# Altium integrated library ON Semi Zener Diodes.IntLib: 1366 symbols (part 11 of 29)
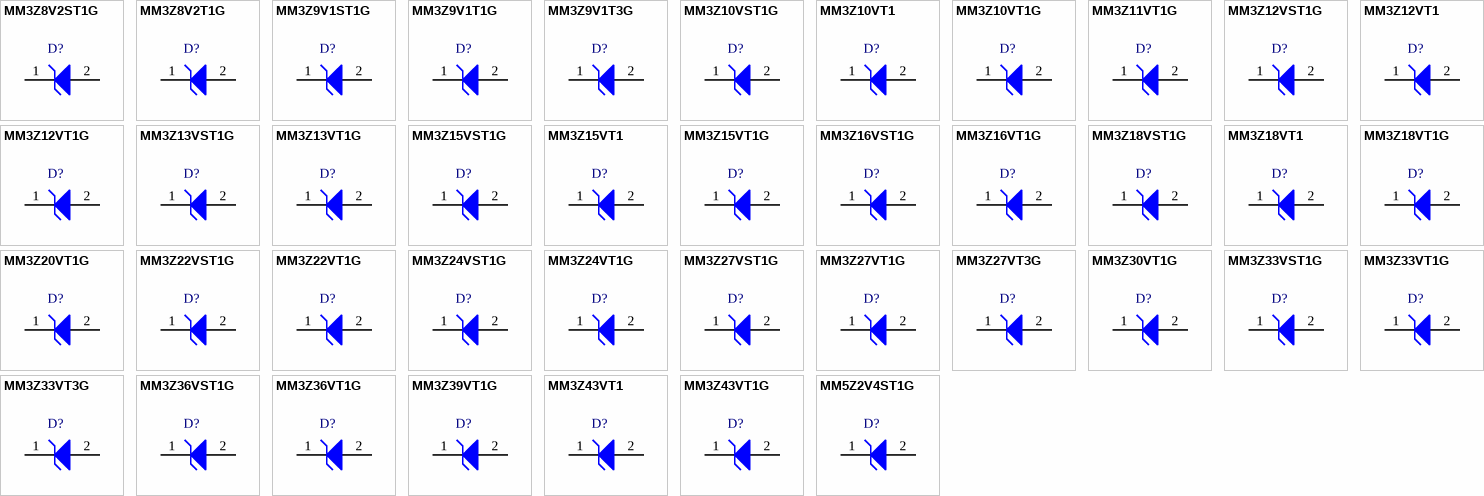
[diagram p54: symbols MM3Z8V2ST1G to MM5Z2V4ST1G]

## MM3Z24VT1G
designator D?
Zener Voltage Regulator, 300 mW, 2-Pin SOD-323, Pb-Free, Tape and Reel; Manufacturer: On Semiconductor; PartNumber: MM3Z24VT1G; P Max (W): 0.3; VZ Typ (V): 24.2; DatasheetVersion: Rev. 9; PackageVersion: Rev. H, 03/2007; PackageReference: SOD-323-2-477-02; PackageDescription: 2-Pin SOD, Body 1.7 x 1.25 mm; Supplier 1: Digi-Key; Supplier Part Number 1: MM3Z24VT1GOSTR-ND; Supplier 2: Digi-Key; Supplier Part Number 2: MM3Z24VT1GOSCT-ND; Supplier 3: Digi-Key; Supplier Part Number 3: MM3Z24VT1GOSDKR-ND; Supplier 4: Farnell; Supplier Part Number 4: 1431194RL; Supplier 5: Farnell; Supplier Part Number 5: 1431194; Supplier 6: Newark; Supplier Part Number 6: 10N9522; Supplier 7: Mouser; Supplier Part Number 7: 863-MM3Z24VT1G; Packing: Tape and Reel; RoHS: Pb-Free; Mounting Technology: Surface Mount; ComponentLink1Description: Manufacturer URL; ComponentLink1URL: http://www.onsemi.com/; ComponentLink2Description: Datasheet; ComponentLink2URL: http://www.onsemi.cn/pub_link/Collateral/MM3Z2V4T1-D.PDF; ComponentLink3Description: Package Specification; ComponentLink3URL: http://www.onsemi.com/pub_link/Collateral/477-02.PDF.1
footprint ONSC-SOD-323-2-477-02_V (SOD, 2-Leads, Body 1.7x1.25mm)
pins: 1 K, 2 A

## MM3Z27VST1G
designator D?
Zener Voltage Regulator, 300 mW, Tight Tolerance Portfolio, 2-Pin SOD-323, Pb-Free, Tape and Reel; Manufacturer: On Semiconductor; PartNumber: MM3Z27VST1G; P Max (W): 0.3; DatasheetVersion: Rev. 21; PackageVersion: Rev. H, 03/2007; PackageReference: SOD-323-2-477-02; PackageDescription: 2-Pin SOD, Body 1.7 x 1.25 mm; Supplier 1: Digi-Key; Supplier Part Number 1: MM3Z27VST1G-ND; Supplier 2: Mouser; Supplier Part Number 2: 863-MM3Z27VST1G; Packing: Tape and Reel; RoHS: Pb-Free; Mounting Technology: Surface Mount; ComponentLink1Description: Manufacturer URL; ComponentLink1URL: http://www.onsemi.com/; ComponentLink2Description: Datasheet; ComponentLink2URL: http://www.onsemi.cn/pub_link/Collateral/MM3Z2V4ST1-D.PDF; ComponentLink3Description: Package Specification; ComponentLink3URL: http://www.onsemi.com/pub_link/Collateral/477-02.PDF.1
footprint ONSC-SOD-323-2-477-02_V (SOD, 2-Leads, Body 1.7x1.25mm)
pins: 1 K, 2 A

## MM3Z27VT1G
designator D?
Zener Voltage Regulator, 300 mW, 2-Pin SOD-323, Pb-Free, Tape and Reel; Manufacturer: On Semiconductor; PartNumber: MM3Z27VT1G; P Max (W): 0.3; VZ Typ (V): 27; DatasheetVersion: Rev. 9; PackageVersion: Rev. H, 03/2007; PackageReference: SOD-323-2-477-02; PackageDescription: 2-Pin SOD, Body 1.7 x 1.25 mm; Supplier 1: Digi-Key; Supplier Part Number 1: MM3Z27VT1GOSTR-ND; Supplier 2: Digi-Key; Supplier Part Number 2: MM3Z27VT1GOSCT-ND; Supplier 3: Digi-Key; Supplier Part Number 3: MM3Z27VT1GOSDKR-ND; Supplier 4: Farnell; Supplier Part Number 4: 2322437; Supplier 5: Newark; Supplier Part Number 5: 67H6870; Supplier 6: Newark; Supplier Part Number 6: 85W2827; Supplier 7: Mouser; Supplier Part Number 7: 863-MM3Z27VT1G; Packing: Tape and Reel; RoHS: Pb-Free; Mounting Technology: Surface Mount; ComponentLink1Description: Manufacturer URL; ComponentLink1URL: http://www.onsemi.com/; ComponentLink2Description: Datasheet; ComponentLink2URL: http://www.onsemi.cn/pub_link/Collateral/MM3Z2V4T1-D.PDF; ComponentLink3Description: Package Specification; ComponentLink3URL: http://www.onsemi.com/pub_link/Collateral/477-02.PDF.1
footprint ONSC-SOD-323-2-477-02_V (SOD, 2-Leads, Body 1.7x1.25mm)
pins: 1 K, 2 A

## MM3Z27VT3G
designator D?
Zener Voltage Regulator, 300 mW, 2-Pin SOD-323, Pb-Free, Tape and Reel; Manufacturer: On Semiconductor; PartNumber: MM3Z27VT3G; P Max (W): 0.3; VZ Typ (V): 27; DatasheetVersion: Rev. 9; PackageVersion: Rev. H, 03/2007; PackageReference: SOD-323-2-477-02; PackageDescription: 2-Pin SOD, Body 1.7 x 1.25 mm; Supplier 1: Newark; Supplier Part Number 1: 72W2905; Supplier 2: Mouser; Supplier Part Number 2: 863-MM3Z27VT3G; Packing: Tape and Reel; RoHS: Pb-Free; Mounting Technology: Surface Mount; ComponentLink1Description: Manufacturer URL; ComponentLink1URL: http://www.onsemi.com/; ComponentLink2Description: Datasheet; ComponentLink2URL: http://www.onsemi.cn/pub_link/Collateral/MM3Z2V4T1-D.PDF; ComponentLink3Description: Package Specification; ComponentLink3URL: http://www.onsemi.com/pub_link/Collateral/477-02.PDF.1
footprint ONSC-SOD-323-2-477-02_V (SOD, 2-Leads, Body 1.7x1.25mm)
pins: 1 K, 2 A

## MM3Z30VT1G
designator D?
Zener Voltage Regulator, 300 mW, 2-Pin SOD-323, Pb-Free, Tape and Reel; Manufacturer: On Semiconductor; PartNumber: MM3Z30VT1G; P Max (W): 0.3; VZ Typ (V): 30; DatasheetVersion: Rev. 9; PackageVersion: Rev. H, 03/2007; PackageReference: SOD-323-2-477-02; PackageDescription: 2-Pin SOD, Body 1.7 x 1.25 mm; Supplier 1: Digi-Key; Supplier Part Number 1: MM3Z30VT1G-ND; Supplier 2: Mouser; Supplier Part Number 2: 863-MM3Z30VT1G; Packing: Tape and Reel; RoHS: Pb-Free; Mounting Technology: Surface Mount; ComponentLink1Description: Manufacturer URL; ComponentLink1URL: http://www.onsemi.com/; ComponentLink2Description: Datasheet; ComponentLink2URL: http://www.onsemi.com/pub_link/Collateral/MM3Z2V4T1-D.PDF; ComponentLink3Description: Package Specification; ComponentLink3URL: http://www.onsemi.com/pub_link/Collateral/477-02.PDF.1
footprint ONSC-SOD-323-2-477-02_V (SOD, 2-Leads, Body 1.7x1.25mm)
pins: 1 K, 2 A

## MM3Z33VST1G
designator D?
Zener Voltage Regulator, 300 mW, Tight Tolerance Portfolio, 2-Pin SOD-323, Pb-Free, Tape and Reel; Manufacturer: On Semiconductor; PartNumber: MM3Z33VST1G; P Max (W): 0.3; DatasheetVersion: Rev. 21; PackageVersion: Rev. H, 03/2007; PackageReference: SOD-323-2-477-02; PackageDescription: 2-Pin SOD, Body 1.7 x 1.25 mm; Supplier 1: Digi-Key; Supplier Part Number 1: MM3Z33VST1G-ND; Supplier 2: Mouser; Supplier Part Number 2: 863-MM3Z33VST1G; Packing: Tape and Reel; RoHS: Pb-Free; Mounting Technology: Surface Mount; ComponentLink1Description: Manufacturer URL; ComponentLink1URL: http://www.onsemi.com/; ComponentLink2Description: Datasheet; ComponentLink2URL: http://www.onsemi.cn/pub_link/Collateral/MM3Z2V4ST1-D.PDF; ComponentLink3Description: Package Specification; ComponentLink3URL: http://www.onsemi.com/pub_link/Collateral/477-02.PDF.1
footprint ONSC-SOD-323-2-477-02_V (SOD, 2-Leads, Body 1.7x1.25mm)
pins: 1 K, 2 A

## MM3Z33VT1G
designator D?
Zener Voltage Regulator, 300 mW, 2-Pin SOD-323, Pb-Free, Tape and Reel; Manufacturer: On Semiconductor; PartNumber: MM3Z33VT1G; P Max (W): 0.3; VZ Typ (V): 33; DatasheetVersion: Rev. 9; PackageVersion: Rev. H, 03/2007; PackageReference: SOD-323-2-477-02; PackageDescription: 2-Pin SOD, Body 1.7 x 1.25 mm; Supplier 1: Digi-Key; Supplier Part Number 1: MM3Z33VT1GOSTR-ND; Supplier 2: Digi-Key; Supplier Part Number 2: MM3Z33VT1GOSCT-ND; Supplier 3: Digi-Key; Supplier Part Number 3: MM3Z33VT1GOSDKR-ND; Supplier 4: Farnell; Supplier Part Number 4: 1431197RL; Supplier 5: Farnell; Supplier Part Number 5: 1431197; Supplier 6: Newark; Supplier Part Number 6: 98H0837; Supplier 7: Mouser; Supplier Part Number 7: 863-MM3Z33VT1G; Packing: Tape and Reel; RoHS: Pb-Free; Mounting Technology: Surface Mount; ComponentLink1Description: Manufacturer URL; ComponentLink1URL: http://www.onsemi.com/; ComponentLink2Description: Datasheet; ComponentLink2URL: http://www.onsemi.cn/pub_link/Collateral/MM3Z2V4T1-D.PDF; ComponentLink3Description: Package Specification; ComponentLink3URL: http://www.onsemi.com/pub_link/Collateral/477-02.PDF.1
footprint ONSC-SOD-323-2-477-02_V (SOD, 2-Leads, Body 1.7x1.25mm)
pins: 1 K, 2 A

## MM3Z33VT3G
designator D?
Zener Voltage Regulator, 300 mW, 2-Pin SOD-323, Pb-Free, Tape and Reel; Manufacturer: On Semiconductor; PartNumber: MM3Z33VT3G; P Max (W): 0.3; VZ Typ (V): 33; DatasheetVersion: Rev. 9; PackageVersion: Rev. H, 03/2007; PackageReference: SOD-323-2-477-02; PackageDescription: 2-Pin SOD, Body 1.7 x 1.25 mm; Supplier 1: Digi-Key; Supplier Part Number 1: MM3Z33VT3G-ND; Supplier 2: Mouser; Supplier Part Number 2: 863-MM3Z33VT3G; Packing: Tape and Reel; RoHS: Pb-Free; Mounting Technology: Surface Mount; ComponentLink1Description: Manufacturer URL; ComponentLink1URL: http://www.onsemi.com/; ComponentLink2Description: Datasheet; ComponentLink2URL: http://www.onsemi.cn/pub_link/Collateral/MM3Z2V4T1-D.PDF; ComponentLink3Description: Package Specification; ComponentLink3URL: http://www.onsemi.com/pub_link/Collateral/477-02.PDF.1
footprint ONSC-SOD-323-2-477-02_V (SOD, 2-Leads, Body 1.7x1.25mm)
pins: 1 K, 2 A

## MM3Z36VST1G
designator D?
Zener Voltage Regulator, 300 mW, Tight Tolerance Portfolio, 2-Pin SOD-323, Pb-Free, Tape and Reel; Manufacturer: On Semiconductor; PartNumber: MM3Z36VST1G; P Max (W): 0.3; DatasheetVersion: Rev. 21; PackageVersion: Rev. H, 03/2007; PackageReference: SOD-323-2-477-02; PackageDescription: 2-Pin SOD, Body 1.7 x 1.25 mm; Supplier 1: Digi-Key; Supplier Part Number 1: MM3Z36VST1G-ND; Supplier 2: Mouser; Supplier Part Number 2: 863-MM3Z36VST1G; Packing: Tape and Reel; RoHS: Pb-Free; Mounting Technology: Surface Mount; ComponentLink1Description: Manufacturer URL; ComponentLink1URL: http://www.onsemi.com/; ComponentLink2Description: Datasheet; ComponentLink2URL: http://www.onsemi.cn/pub_link/Collateral/MM3Z2V4ST1-D.PDF; ComponentLink3Description: Package Specification; ComponentLink3URL: http://www.onsemi.com/pub_link/Collateral/477-02.PDF.1
footprint ONSC-SOD-323-2-477-02_V (SOD, 2-Leads, Body 1.7x1.25mm)
pins: 1 K, 2 A

## MM3Z36VT1G
designator D?
Zener Voltage Regulator, 300 mW, 2-Pin SOD-323, Pb-Free, Tape and Reel; Manufacturer: On Semiconductor; PartNumber: MM3Z36VT1G; P Max (W): 0.3; VZ Typ (V): 36; DatasheetVersion: Rev. 9; PackageVersion: Rev. H, 03/2007; PackageReference: SOD-323-2-477-02; PackageDescription: 2-Pin SOD, Body 1.7 x 1.25 mm; Supplier 1: Digi-Key; Supplier Part Number 1: MM3Z36VT1GOSTR-ND; Supplier 2: Digi-Key; Supplier Part Number 2: MM3Z36VT1GOSCT-ND; Supplier 3: Digi-Key; Supplier Part Number 3: MM3Z36VT1GOSDKR-ND; Supplier 4: Farnell; Supplier Part Number 4: 2317748; Supplier 5: Farnell; Supplier Part Number 5: 2317456; Supplier 6: Newark; Supplier Part Number 6: 94W9053; Supplier 7: Newark; Supplier Part Number 7: 04X6466; Supplier 8: Mouser; Supplier Part Number 8: 863-MM3Z36VT1G; Packing: Tape and Reel; RoHS: Pb-Free; Mounting Technology: Surface Mount; ComponentLink1Description: Manufacturer URL; ComponentLink1URL: http://www.onsemi.com/; ComponentLink2Description: Datasheet; ComponentLink2URL: http://www.onsemi.cn/pub_link/Collateral/MM3Z2V4T1-D.PDF; ComponentLink3Description: Package Specification; ComponentLink3URL: http://www.onsemi.com/pub_link/Collateral/477-02.PDF.1
footprint ONSC-SOD-323-2-477-02_V (SOD, 2-Leads, Body 1.7x1.25mm)
pins: 1 K, 2 A

## MM3Z39VT1G
designator D?
Zener Voltage Regulator, 300 mW, 2-Pin SOD-323, Pb-Free, Tape and Reel; Manufacturer: On Semiconductor; PartNumber: MM3Z39VT1G; P Max (W): 0.3; VZ Typ (V): 39; DatasheetVersion: Rev. 9; PackageVersion: Rev. H, 03/2007; PackageReference: SOD-323-2-477-02; PackageDescription: 2-Pin SOD, Body 1.7 x 1.25 mm; Supplier 1: Digi-Key; Supplier Part Number 1: MM3Z39VT1G-ND; Supplier 2: Newark; Supplier Part Number 2: 98H0838; Supplier 3: Mouser; Supplier Part Number 3: 863-MM3Z39VT1G; Packing: Tape and Reel; RoHS: Pb-Free; Mounting Technology: Surface Mount; ComponentLink1Description: Manufacturer URL; ComponentLink1URL: http://www.onsemi.com/; ComponentLink2Description: Datasheet; ComponentLink2URL: http://www.onsemi.cn/pub_link/Collateral/MM3Z2V4T1-D.PDF; ComponentLink3Description: Package Specification; ComponentLink3URL: http://www.onsemi.com/pub_link/Collateral/477-02.PDF.1
footprint ONSC-SOD-323-2-477-02_V (SOD, 2-Leads, Body 1.7x1.25mm)
pins: 1 K, 2 A

## MM3Z43VT1
designator D?
Zener Voltage Regulator, 300 mW, 2-Pin SOD-323, Tape and Reel; Manufacturer: On Semiconductor; PartNumber: MM3Z43VT1; P Max (W): 0.3; VZ Typ (V): 43; DatasheetVersion: Rev. 9; PackageVersion: Rev. H, 03/2007; PackageReference: SOD-323-2-477-02; PackageDescription: 2-Pin SOD, Body 1.7 x 1.25 mm; Supplier 1: Digi-Key; Supplier Part Number 1: MM3Z43VT1-ND; Packing: Tape and Reel; Mounting Technology: Surface Mount; ComponentLink1Description: Manufacturer URL; ComponentLink1URL: http://www.onsemi.com/; ComponentLink2Description: Datasheet; ComponentLink2URL: http://www.onsemi.cn/pub_link/Collateral/MM3Z2V4T1-D.PDF; ComponentLink3Description: Package Specification; ComponentLink3URL: http://www.onsemi.com/pub_link/Collateral/477-02.PDF.1
footprint ONSC-SOD-323-2-477-02_V (SOD, 2-Leads, Body 1.7x1.25mm)
pins: 1 K, 2 A

## MM3Z43VT1G
designator D?
Zener Voltage Regulator, 300 mW, 2-Pin SOD-323, Pb-Free, Tape and Reel; Manufacturer: On Semiconductor; PartNumber: MM3Z43VT1G; P Max (W): 0.3; VZ Typ (V): 43; DatasheetVersion: Rev. 9; PackageVersion: Rev. H, 03/2007; PackageReference: SOD-323-2-477-02; PackageDescription: 2-Pin SOD, Body 1.7 x 1.25 mm; Supplier 1: Digi-Key; Supplier Part Number 1: MM3Z43VT1G-ND; Supplier 2: Newark; Supplier Part Number 2: 45J1634; Supplier 3: Mouser; Supplier Part Number 3: 863-MM3Z43VT1G; Packing: Tape and Reel; RoHS: Pb-Free; Mounting Technology: Surface Mount; ComponentLink1Description: Manufacturer URL; ComponentLink1URL: http://www.onsemi.com/; ComponentLink2Description: Datasheet; ComponentLink2URL: http://www.onsemi.cn/pub_link/Collateral/MM3Z2V4T1-D.PDF; ComponentLink3Description: Package Specification; ComponentLink3URL: http://www.onsemi.com/pub_link/Collateral/477-02.PDF.1
footprint ONSC-SOD-323-2-477-02_V (SOD, 2-Leads, Body 1.7x1.25mm)
pins: 1 K, 2 A

## MM5Z2V4ST1G
designator D?
Zener Voltage Regulator, 500 mW, 2-Pin SOD-523, Pb-Free, Tape and Reel; Manufacturer: On Semiconductor; PartNumber: MM5Z2V4ST1G; P Max (W): 0.5; DatasheetVersion: Rev. 9; PackageVersion: Rev. E, 09/2010; PackageReference: SOD-523-2-502-01; PackageDescription: 2-Pin SOD, Body 1.2 x 0.8 mm; Supplier 1: Digi-Key; Supplier Part Number 1: MM5Z2V4ST1GOSTR-ND; Supplier 2: Digi-Key; Supplier Part Number 2: MM5Z2V4ST1GOSCT-ND; Supplier 3: Newark; Supplier Part Number 3: 42K1411; Supplier 4: Mouser; Supplier Part Number 4: 863-MM5Z2V4ST1G; Packing: Tape and Reel; RoHS: Pb-Free; Mounting Technology: Surface Mount; ComponentLink1Description: Manufacturer URL; ComponentLink1URL: http://www.onsemi.com/; ComponentLink2Description: Datasheet; ComponentLink2URL: http://www.onsemi.cn/pub_link/Collateral/MM5Z2V4ST1-D.PDF; ComponentLink3Description: Package Specification; ComponentLink3URL: http://www.onsemi.com/pub_link/Collateral/502-01.PDF
footprint ONSC-SOD-523-2-502-01_V (SOD, 2-Leads, Body 1.2x0.8mm)
pins: 1 K, 2 A

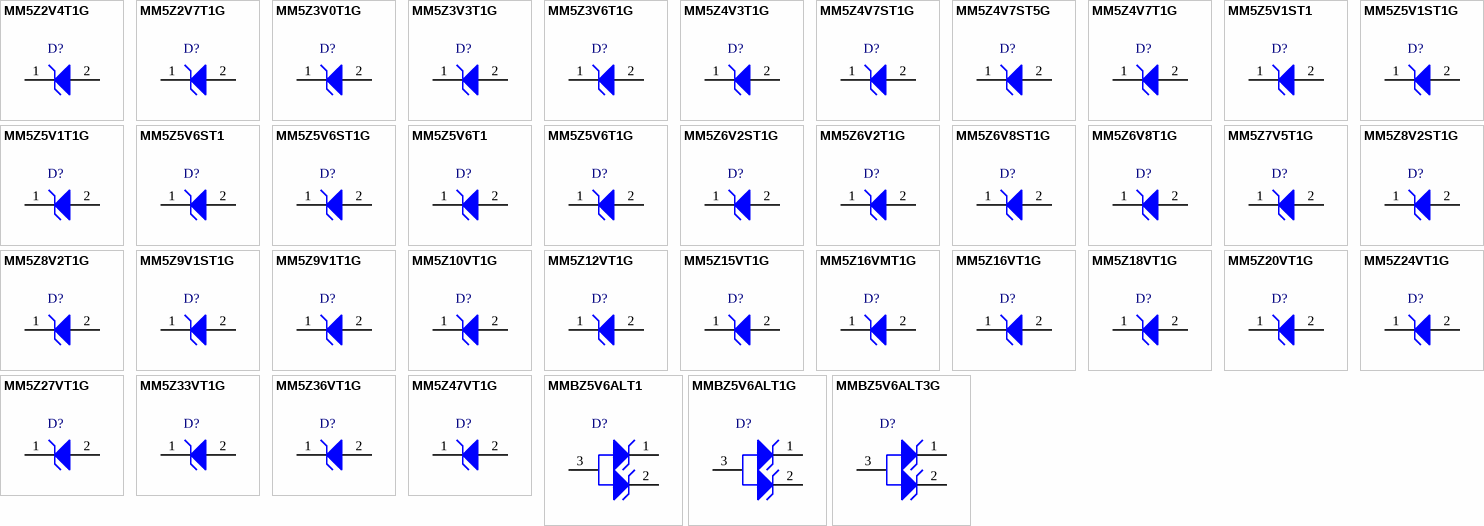
[diagram p15: symbols MM5Z2V4T1G to MMBZ5V6ALT3G]

## MM5Z2V4T1G
designator D?
Zener Voltage Regulator, 500 mW, 2-Pin SOD-523, Pb-Free, Tape and Reel; Manufacturer: On Semiconductor; PartNumber: MM5Z2V4T1G; P Max (W): 0.5; VZ Typ (V): 2.4; DatasheetVersion: Rev. 10; PackageVersion: Rev. E, 09/2010; PackageReference: SOD-523-2-502-01; PackageDescription: 2-Pin SOD, Body 1.2 x 0.8 mm; Supplier 1: Digi-Key; Supplier Part Number 1: MM5Z2V4T1GOSTR-ND; Supplier 2: Digi-Key; Supplier Part Number 2: MM5Z2V4T1GOSCT-ND; Supplier 3: Digi-Key; Supplier Part Number 3: MM5Z2V4T1GOSDKR-ND; Supplier 4: Farnell; Supplier Part Number 4: 1431216; Supplier 5: Farnell; Supplier Part Number 5: 1431216RL; Supplier 6: Newark; Supplier Part Number 6: 58M9267; Supplier 7: Mouser; Supplier Part Number 7: 863-MM5Z2V4T1G; Packing: Tape and Reel; RoHS: Pb-Free; Mounting Technology: Surface Mount; ComponentLink1Description: Manufacturer URL; ComponentLink1URL: http://www.onsemi.com/; ComponentLink2Description: Datasheet; ComponentLink2URL: http://www.onsemi.cn/pub_link/Collateral/MM5Z2V4T1-D.PDF; ComponentLink3Description: Package Specification; ComponentLink3URL: http://www.onsemi.com/pub_link/Collateral/502-01.PDF
footprint ONSC-SOD-523-2-502-01_V (SOD, 2-Leads, Body 1.2x0.8mm)
pins: 1 K, 2 A

## MM5Z2V7T1G
designator D?
Zener Voltage Regulator, 500 mW, 2-Pin SOD-523, Pb-Free, Tape and Reel; Manufacturer: On Semiconductor; PartNumber: MM5Z2V7T1G; P Max (W): 0.5; VZ Typ (V): 2.7; DatasheetVersion: Rev. 10; PackageVersion: Rev. E, 09/2010; PackageReference: SOD-523-2-502-01; PackageDescription: 2-Pin SOD, Body 1.2 x 0.8 mm; Supplier 1: Digi-Key; Supplier Part Number 1: MM5Z2V7T1GOSTR-ND; Supplier 2: Digi-Key; Supplier Part Number 2: MM5Z2V7T1GOSCT-ND; Supplier 3: Newark; Supplier Part Number 3: 42K1413; Supplier 4: Mouser; Supplier Part Number 4: 863-MM5Z2V7T1G; Packing: Tape and Reel; RoHS: Pb-Free; Mounting Technology: Surface Mount; ComponentLink1Description: Manufacturer URL; ComponentLink1URL: http://www.onsemi.com/; ComponentLink2Description: Datasheet; ComponentLink2URL: http://www.onsemi.cn/pub_link/Collateral/MM5Z2V4T1-D.PDF; ComponentLink3Description: Package Specification; ComponentLink3URL: http://www.onsemi.com/pub_link/Collateral/502-01.PDF
footprint ONSC-SOD-523-2-502-01_V (SOD, 2-Leads, Body 1.2x0.8mm)
pins: 1 K, 2 A

## MM5Z3V0T1G
designator D?
Zener Voltage Regulator, 500 mW, 2-Pin SOD-523, Pb-Free, Tape and Reel; Manufacturer: On Semiconductor; PartNumber: MM5Z3V0T1G; P Max (W): 0.5; VZ Typ (V): 3; DatasheetVersion: Rev. 10; PackageVersion: Rev. E, 09/2010; PackageReference: SOD-523-2-502-01; PackageDescription: 2-Pin SOD, Body 1.2 x 0.8 mm; Supplier 1: Digi-Key; Supplier Part Number 1: MM5Z3V0T1GOSTR-ND; Supplier 2: Digi-Key; Supplier Part Number 2: MM5Z3V0T1GOSCT-ND; Supplier 3: Newark; Supplier Part Number 3: 42K1414; Supplier 4: Mouser; Supplier Part Number 4: 863-MM5Z3V0T1G; Packing: Tape and Reel; RoHS: Pb-Free; Mounting Technology: Surface Mount; ComponentLink1Description: Manufacturer URL; ComponentLink1URL: http://www.onsemi.com/; ComponentLink2Description: Datasheet; ComponentLink2URL: http://www.onsemi.cn/pub_link/Collateral/MM5Z2V4T1-D.PDF; ComponentLink3Description: Package Specification; ComponentLink3URL: http://www.onsemi.com/pub_link/Collateral/502-01.PDF
footprint ONSC-SOD-523-2-502-01_V (SOD, 2-Leads, Body 1.2x0.8mm)
pins: 1 K, 2 A

## MM5Z3V3T1G
designator D?
Zener Voltage Regulator, 500 mW, 2-Pin SOD-523, Pb-Free, Tape and Reel; Manufacturer: On Semiconductor; PartNumber: MM5Z3V3T1G; P Max (W): 0.5; VZ Typ (V): 3.3; DatasheetVersion: Rev. 10; PackageVersion: Rev. E, 09/2010; PackageReference: SOD-523-2-502-01; PackageDescription: 2-Pin SOD, Body 1.2 x 0.8 mm; Supplier 1: Digi-Key; Supplier Part Number 1: MM5Z3V3T1GOSTR-ND; Supplier 2: Digi-Key; Supplier Part Number 2: MM5Z3V3T1GOSCT-ND; Supplier 3: Digi-Key; Supplier Part Number 3: MM5Z3V3T1GOSDKR-ND; Supplier 4: Farnell; Supplier Part Number 4: 1431218; Supplier 5: Farnell; Supplier Part Number 5: 1431218RL; Supplier 6: Newark; Supplier Part Number 6: 09R9519; Supplier 7: Newark; Supplier Part Number 7: 42K1415; Supplier 8: Mouser; Supplier Part Number 8: 863-MM5Z3V3T1G; Packing: Tape and Reel; RoHS: Pb-Free; Mounting Technology: Surface Mount; ComponentLink1Description: Manufacturer URL; ComponentLink1URL: http://www.onsemi.com/; ComponentLink2Description: Datasheet; ComponentLink2URL: http://www.onsemi.cn/pub_link/Collateral/MM5Z2V4T1-D.PDF; ComponentLink3Description: Package Specification; ComponentLink3URL: http://www.onsemi.com/pub_link/Collateral/502-01.PDF
footprint ONSC-SOD-523-2-502-01_V (SOD, 2-Leads, Body 1.2x0.8mm)
pins: 1 K, 2 A

## MM5Z3V6T1G
designator D?
Zener Voltage Regulator, 500 mW, 2-Pin SOD-523, Pb-Free, Tape and Reel; Manufacturer: On Semiconductor; PartNumber: MM5Z3V6T1G; P Max (W): 0.5; VZ Typ (V): 3.6; DatasheetVersion: Rev. 10; PackageVersion: Rev. E, 09/2010; PackageReference: SOD-523-2-502-01; PackageDescription: 2-Pin SOD, Body 1.2 x 0.8 mm; Supplier 1: Digi-Key; Supplier Part Number 1: MM5Z3V6T1GOSTR-ND; Supplier 2: Digi-Key; Supplier Part Number 2: MM5Z3V6T1GOSCT-ND; Supplier 3: Mouser; Supplier Part Number 3: 863-MM5Z3V6T1G; Packing: Tape and Reel; RoHS: Pb-Free; Mounting Technology: Surface Mount; ComponentLink1Description: Manufacturer URL; ComponentLink1URL: http://www.onsemi.com/; ComponentLink2Description: Datasheet; ComponentLink2URL: http://www.onsemi.cn/pub_link/Collateral/MM5Z2V4T1-D.PDF; ComponentLink3Description: Package Specification; ComponentLink3URL: http://www.onsemi.com/pub_link/Collateral/502-01.PDF
footprint ONSC-SOD-523-2-502-01_V (SOD, 2-Leads, Body 1.2x0.8mm)
pins: 1 K, 2 A

## MM5Z4V3T1G
designator D?
Zener Voltage Regulator, 500 mW, 2-Pin SOD-523, Pb-Free, Tape and Reel; Manufacturer: On Semiconductor; PartNumber: MM5Z4V3T1G; P Max (W): 0.5; VZ Typ (V): 4.3; DatasheetVersion: Rev. 10; PackageVersion: Rev. E, 09/2010; PackageReference: SOD-523-2-502-01; PackageDescription: 2-Pin SOD, Body 1.2 x 0.8 mm; Supplier 1: Digi-Key; Supplier Part Number 1: MM5Z4V3T1GOS-ND; Supplier 2: Mouser; Supplier Part Number 2: 863-MM5Z4V3T1G; Packing: Tape and Reel; RoHS: Pb-Free; Mounting Technology: Surface Mount; ComponentLink1Description: Manufacturer URL; ComponentLink1URL: http://www.onsemi.com/; ComponentLink2Description: Datasheet; ComponentLink2URL: http://www.onsemi.cn/pub_link/Collateral/MM5Z2V4T1-D.PDF; ComponentLink3Description: Package Specification; ComponentLink3URL: http://www.onsemi.com/pub_link/Collateral/502-01.PDF
footprint ONSC-SOD-523-2-502-01_V (SOD, 2-Leads, Body 1.2x0.8mm)
pins: 1 K, 2 A

## MM5Z4V7ST1G
designator D?
Zener Voltage Regulator, 500 mW, 2-Pin SOD-523, Pb-Free, Tape and Reel; Manufacturer: On Semiconductor; PartNumber: MM5Z4V7ST1G; P Max (W): 0.5; DatasheetVersion: Rev. 9; PackageVersion: Rev. E, 09/2010; PackageReference: SOD-523-2-502-01; PackageDescription: 2-Pin SOD, Body 1.2 x 0.8 mm; Supplier 1: Digi-Key; Supplier Part Number 1: MM5Z4V7ST1GOSTR-ND; Supplier 2: Digi-Key; Supplier Part Number 2: MM5Z4V7ST1GOSCT-ND; Supplier 3: Digi-Key; Supplier Part Number 3: MM5Z4V7ST1GOSDKR-ND; Supplier 4: Newark; Supplier Part Number 4: 42K1422; Supplier 5: Newark; Supplier Part Number 5: 10N9528; Supplier 6: Mouser; Supplier Part Number 6: 863-MM5Z4V7ST1G; Packing: Tape and Reel; RoHS: Pb-Free; Mounting Technology: Surface Mount; ComponentLink1Description: Manufacturer URL; ComponentLink1URL: http://www.onsemi.com/; ComponentLink2Description: Datasheet; ComponentLink2URL: http://www.onsemi.cn/pub_link/Collateral/MM5Z2V4ST1-D.PDF; ComponentLink3Description: Package Specification; ComponentLink3URL: http://www.onsemi.com/pub_link/Collateral/502-01.PDF
footprint ONSC-SOD-523-2-502-01_V (SOD, 2-Leads, Body 1.2x0.8mm)
pins: 1 K, 2 A

## MM5Z4V7ST5G
designator D?
Zener Voltage Regulator, 500 mW, 2-Pin SOD-523, Pb-Free, Tape and Reel; Manufacturer: On Semiconductor; PartNumber: MM5Z4V7ST5G; P Max (W): 0.5; DatasheetVersion: Rev. 9; PackageVersion: Rev. E, 09/2010; PackageReference: SOD-523-2-502-01; PackageDescription: 2-Pin SOD, Body 1.2 x 0.8 mm; Supplier 1: Digi-Key; Supplier Part Number 1: MM5Z4V7ST5G-ND; Supplier 2: Mouser; Supplier Part Number 2: 863-MM5Z4V7ST5G; Packing: Tape and Reel; RoHS: Pb-Free; Mounting Technology: Surface Mount; ComponentLink1Description: Manufacturer URL; ComponentLink1URL: http://www.onsemi.com/; ComponentLink2Description: Datasheet; ComponentLink2URL: http://www.onsemi.cn/pub_link/Collateral/MM5Z2V4ST1-D.PDF; ComponentLink3Description: Package Specification; ComponentLink3URL: http://www.onsemi.com/pub_link/Collateral/502-01.PDF
footprint ONSC-SOD-523-2-502-01_V (SOD, 2-Leads, Body 1.2x0.8mm)
pins: 1 K, 2 A

## MM5Z4V7T1G
designator D?
Zener Voltage Regulator, 500 mW, 2-Pin SOD-523, Pb-Free, Tape and Reel; Manufacturer: On Semiconductor; PartNumber: MM5Z4V7T1G; P Max (W): 0.5; VZ Typ (V): 4.7; DatasheetVersion: Rev. 10; PackageVersion: Rev. E, 09/2010; PackageReference: SOD-523-2-502-01; PackageDescription: 2-Pin SOD, Body 1.2 x 0.8 mm; Supplier 1: Digi-Key; Supplier Part Number 1: MM5Z4V7T1GOSTR-ND; Supplier 2: Digi-Key; Supplier Part Number 2: MM5Z4V7T1GOSCT-ND; Supplier 3: Digi-Key; Supplier Part Number 3: MM5Z4V7T1GOSDKR-ND; Supplier 4: Farnell; Supplier Part Number 4: 1431219RL; Supplier 5: Farnell; Supplier Part Number 5: 1431219; Supplier 6: Newark; Supplier Part Number 6: 09R9522; Supplier 7: Mouser; Supplier Part Number 7: 863-MM5Z4V7T1G; Packing: Tape and Reel; RoHS: Pb-Free; Mounting Technology: Surface Mount; ComponentLink1Description: Manufacturer URL; ComponentLink1URL: http://www.onsemi.com/; ComponentLink2Description: Datasheet; ComponentLink2URL: http://www.onsemi.cn/pub_link/Collateral/MM5Z2V4T1-D.PDF; ComponentLink3Description: Package Specification; ComponentLink3URL: http://www.onsemi.com/pub_link/Collateral/502-01.PDF
footprint ONSC-SOD-523-2-502-01_V (SOD, 2-Leads, Body 1.2x0.8mm)
pins: 1 K, 2 A

## MM5Z5V1ST1
designator D?
Zener Voltage Regulator, 500 mW, 2-Pin SOD-523, Pb-Free, Tape and Reel; Manufacturer: On Semiconductor; PartNumber: MM5Z5V1ST1; P Max (W): 0.5; DatasheetVersion: Rev. 9; PackageVersion: Rev. E, 09/2010; PackageReference: SOD-523-2-502-01; PackageDescription: 2-Pin SOD, Body 1.2 x 0.8 mm; Supplier 1: Digi-Key; Supplier Part Number 1: MM5Z5V1ST1OSTR-ND; Supplier 2: Digi-Key; Supplier Part Number 2: MM5Z5V1ST1OSCT-ND; Supplier 3: Mouser; Supplier Part Number 3: 863-MM5Z5V1ST1; Packing: Tape and Reel; RoHS: Pb-Free; Mounting Technology: Surface Mount; ComponentLink1Description: Manufacturer URL; ComponentLink1URL: http://www.onsemi.com/; ComponentLink2Description: Datasheet; ComponentLink2URL: http://www.onsemi.cn/pub_link/Collateral/MM5Z2V4ST1-D.PDF; ComponentLink3Description: Package Specification; ComponentLink3URL: http://www.onsemi.com/pub_link/Collateral/502-01.PDF
footprint ONSC-SOD-523-2-502-01_V (SOD, 2-Leads, Body 1.2x0.8mm)
pins: 1 K, 2 A

## MM5Z5V1ST1G
designator D?
Zener Voltage Regulator, 500 mW, 2-Pin SOD-523, Pb-Free, Tape and Reel; Manufacturer: On Semiconductor; PartNumber: MM5Z5V1ST1G; P Max (W): 0.5; DatasheetVersion: Rev. 9; PackageVersion: Rev. E, 09/2010; PackageReference: SOD-523-2-502-01; PackageDescription: 2-Pin SOD, Body 1.2 x 0.8 mm; Supplier 1: Digi-Key; Supplier Part Number 1: MM5Z5V1ST1GOSTR-ND; Supplier 2: Digi-Key; Supplier Part Number 2: MM5Z5V1ST1GOSCT-ND; Supplier 3: Digi-Key; Supplier Part Number 3: MM5Z5V1ST1GOSDKR-ND; Supplier 4: Newark; Supplier Part Number 4: 10N9529; Supplier 5: Newark; Supplier Part Number 5: 42K1424; Supplier 6: Mouser; Supplier Part Number 6: 863-MM5Z5V1ST1G; Packing: Tape and Reel; RoHS: Pb-Free; Mounting Technology: Surface Mount; ComponentLink1Description: Manufacturer URL; ComponentLink1URL: http://www.onsemi.com/; ComponentLink2Description: Datasheet; ComponentLink2URL: http://www.onsemi.cn/pub_link/Collateral/MM5Z2V4ST1-D.PDF; ComponentLink3Description: Package Specification; ComponentLink3URL: http://www.onsemi.com/pub_link/Collateral/502-01.PDF
footprint ONSC-SOD-523-2-502-01_V (SOD, 2-Leads, Body 1.2x0.8mm)
pins: 1 K, 2 A

## MM5Z5V1T1G
designator D?
Zener Voltage Regulator, 500 mW, 2-Pin SOD-523, Pb-Free, Tape and Reel; Manufacturer: On Semiconductor; PartNumber: MM5Z5V1T1G; P Max (W): 0.5; VZ Typ (V): 5.1; DatasheetVersion: Rev. 10; PackageVersion: Rev. E, 09/2010; PackageReference: SOD-523-2-502-01; PackageDescription: 2-Pin SOD, Body 1.2 x 0.8 mm; Supplier 1: Digi-Key; Supplier Part Number 1: MM5Z5V1T1GOSTR-ND; Supplier 2: Digi-Key; Supplier Part Number 2: MM5Z5V1T1GOSCT-ND; Supplier 3: Digi-Key; Supplier Part Number 3: MM5Z5V1T1GOSDKR-ND; Supplier 4: Farnell; Supplier Part Number 4: 1431220RL; Supplier 5: Farnell; Supplier Part Number 5: 1431220; Supplier 6: Newark; Supplier Part Number 6: 10N9530; Supplier 7: Newark; Supplier Part Number 7: 42K1425; Supplier 8: Mouser; Supplier Part Number 8: 863-MM5Z5V1T1G; Packing: Tape and Reel; RoHS: Pb-Free; Mounting Technology: Surface Mount; ComponentLink1Description: Manufacturer URL; ComponentLink1URL: http://www.onsemi.com/; ComponentLink2Description: Datasheet; ComponentLink2URL: http://www.onsemi.cn/pub_link/Collateral/MM5Z2V4T1-D.PDF; ComponentLink3Description: Package Specification; ComponentLink3URL: http://www.onsemi.com/pub_link/Collateral/502-01.PDF
footprint ONSC-SOD-523-2-502-01_V (SOD, 2-Leads, Body 1.2x0.8mm)
pins: 1 K, 2 A

## MM5Z5V6ST1
designator D?
Zener Voltage Regulator, 500 mW, 2-Pin SOD-523, Pb-Free, Tape and Reel; Manufacturer: On Semiconductor; PartNumber: MM5Z5V6ST1; P Max (W): 0.5; DatasheetVersion: Rev. 9; PackageVersion: Rev. E, 09/2010; PackageReference: SOD-523-2-502-01; PackageDescription: 2-Pin SOD, Body 1.2 x 0.8 mm; Supplier 1: Digi-Key; Supplier Part Number 1: MM5Z5V6ST1OSTR-ND; Supplier 2: Digi-Key; Supplier Part Number 2: MM5Z5V6ST1OSCT-ND; Supplier 3: Mouser; Supplier Part Number 3: 863-MM5Z5V6ST1; Packing: Tape and Reel; RoHS: Pb-Free; Mounting Technology: Surface Mount; ComponentLink1Description: Manufacturer URL; ComponentLink1URL: http://www.onsemi.com/; ComponentLink2Description: Datasheet; ComponentLink2URL: http://www.onsemi.cn/pub_link/Collateral/MM5Z2V4ST1-D.PDF; ComponentLink3Description: Package Specification; ComponentLink3URL: http://www.onsemi.com/pub_link/Collateral/502-01.PDF
footprint ONSC-SOD-523-2-502-01_V (SOD, 2-Leads, Body 1.2x0.8mm)
pins: 1 K, 2 A

## MM5Z5V6ST1G
designator D?
Zener Voltage Regulator, 500 mW, 2-Pin SOD-523, Pb-Free, Tape and Reel; Manufacturer: On Semiconductor; PartNumber: MM5Z5V6ST1G; P Max (W): 0.5; DatasheetVersion: Rev. 9; PackageVersion: Rev. E, 09/2010; PackageReference: SOD-523-2-502-01; PackageDescription: 2-Pin SOD, Body 1.2 x 0.8 mm; Supplier 1: Digi-Key; Supplier Part Number 1: MM5Z5V6ST1GOSTR-ND; Supplier 2: Digi-Key; Supplier Part Number 2: MM5Z5V6ST1GOSCT-ND; Supplier 3: Digi-Key; Supplier Part Number 3: MM5Z5V6ST1GOSDKR-ND; Supplier 4: Newark; Supplier Part Number 4: 10N9531; Supplier 5: Mouser; Supplier Part Number 5: 863-MM5Z5V6ST1G; Packing: Tape and Reel; RoHS: Pb-Free; Mounting Technology: Surface Mount; ComponentLink1Description: Manufacturer URL; ComponentLink1URL: http://www.onsemi.com/; ComponentLink2Description: Datasheet; ComponentLink2URL: http://www.onsemi.cn/pub_link/Collateral/MM5Z2V4ST1-D.PDF; ComponentLink3Description: Package Specification; ComponentLink3URL: http://www.onsemi.com/pub_link/Collateral/502-01.PDF
footprint ONSC-SOD-523-2-502-01_V (SOD, 2-Leads, Body 1.2x0.8mm)
pins: 1 K, 2 A

## MM5Z5V6T1
designator D?
Zener Voltage Regulator, 500 mW, 2-Pin SOD-523, Pb-Free, Tape and Reel; Manufacturer: On Semiconductor; PartNumber: MM5Z5V6T1; P Max (W): 0.5; VZ Typ (V): 5.6; DatasheetVersion: Rev. 10; PackageVersion: Rev. E, 09/2010; PackageReference: SOD-523-2-502-01; PackageDescription: 2-Pin SOD, Body 1.2 x 0.8 mm; Supplier 1: Digi-Key; Supplier Part Number 1: MM5Z5V6T1OS-ND; Supplier 2: Mouser; Supplier Part Number 2: 863-MM5Z5V6T1; Packing: Tape and Reel; RoHS: Pb-Free; Mounting Technology: Surface Mount; ComponentLink1Description: Manufacturer URL; ComponentLink1URL: http://www.onsemi.com/; ComponentLink2Description: Datasheet; ComponentLink2URL: http://www.onsemi.cn/pub_link/Collateral/MM5Z2V4T1-D.PDF; ComponentLink3Description: Package Specification; ComponentLink3URL: http://www.onsemi.com/pub_link/Collateral/502-01.PDF
footprint ONSC-SOD-523-2-502-01_V (SOD, 2-Leads, Body 1.2x0.8mm)
pins: 1 K, 2 A

## MM5Z5V6T1G
designator D?
Zener Voltage Regulator, 500 mW, 2-Pin SOD-523, Pb-Free, Tape and Reel; Manufacturer: On Semiconductor; PartNumber: MM5Z5V6T1G; P Max (W): 0.5; VZ Typ (V): 5.6; DatasheetVersion: Rev. 10; PackageVersion: Rev. E, 09/2010; PackageReference: SOD-523-2-502-01; PackageDescription: 2-Pin SOD, Body 1.2 x 0.8 mm; Supplier 1: Digi-Key; Supplier Part Number 1: MM5Z5V6T1GOSTR-ND; Supplier 2: Digi-Key; Supplier Part Number 2: MM5Z5V6T1GOSCT-ND; Supplier 3: Digi-Key; Supplier Part Number 3: MM5Z5V6T1GOSDKR-ND; Supplier 4: Farnell; Supplier Part Number 4: 1431221RL; Supplier 5: Farnell; Supplier Part Number 5: 2317769; Supplier 6: Newark; Supplier Part Number 6: 42K1427; Supplier 7: Newark; Supplier Part Number 7: 85W2832; Supplier 8: Mouser; Supplier Part Number 8: 863-MM5Z5V6T1G; Packing: Tape and Reel; RoHS: Pb-Free; Mounting Technology: Surface Mount; ComponentLink1Description: Manufacturer URL; ComponentLink1URL: http://www.onsemi.com/; ComponentLink2Description: Datasheet; ComponentLink2URL: http://www.onsemi.cn/pub_link/Collateral/MM5Z2V4T1-D.PDF; ComponentLink3Description: Package Specification; ComponentLink3URL: http://www.onsemi.com/pub_link/Collateral/502-01.PDF
footprint ONSC-SOD-523-2-502-01_V (SOD, 2-Leads, Body 1.2x0.8mm)
pins: 1 K, 2 A

## MM5Z6V2ST1G
designator D?
Zener Voltage Regulator, 500 mW, 2-Pin SOD-523, Pb-Free, Tape and Reel; Manufacturer: On Semiconductor; PartNumber: MM5Z6V2ST1G; P Max (W): 0.5; DatasheetVersion: Rev. 9; PackageVersion: Rev. E, 09/2010; PackageReference: SOD-523-2-502-01; PackageDescription: 2-Pin SOD, Body 1.2 x 0.8 mm; Supplier 1: Digi-Key; Supplier Part Number 1: MM5Z6V2ST1GOSTR-ND; Supplier 2: Digi-Key; Supplier Part Number 2: MM5Z6V2ST1GOSCT-ND; Supplier 3: Digi-Key; Supplier Part Number 3: MM5Z6V2ST1GOSDKR-ND; Supplier 4: Farnell; Supplier Part Number 4: 2317775; Supplier 5: Farnell; Supplier Part Number 5: 1861218; Supplier 6: Newark; Supplier Part Number 6: 42K1428; Supplier 7: Newark; Supplier Part Number 7: 09R9523; Supplier 8: Mouser; Supplier Part Number 8: 863-MM5Z6V2ST1G; Packing: Tape and Reel; RoHS: Pb-Free; Mounting Technology: Surface Mount; ComponentLink1Description: Manufacturer URL; ComponentLink1URL: http://www.onsemi.com/; ComponentLink2Description: Datasheet; ComponentLink2URL: http://www.onsemi.cn/pub_link/Collateral/MM5Z2V4ST1-D.PDF; ComponentLink3Description: Package Specification; ComponentLink3URL: http://www.onsemi.com/pub_link/Collateral/502-01.PDF
footprint ONSC-SOD-523-2-502-01_V (SOD, 2-Leads, Body 1.2x0.8mm)
pins: 1 K, 2 A

## MM5Z6V2T1G
designator D?
Zener Voltage Regulator, 500 mW, 2-Pin SOD-523, Pb-Free, Tape and Reel; Manufacturer: On Semiconductor; PartNumber: MM5Z6V2T1G; P Max (W): 0.5; VZ Typ (V): 6.2; DatasheetVersion: Rev. 10; PackageVersion: Rev. E, 09/2010; PackageReference: SOD-523-2-502-01; PackageDescription: 2-Pin SOD, Body 1.2 x 0.8 mm; Supplier 1: Digi-Key; Supplier Part Number 1: MM5Z6V2T1GOS-ND; Supplier 2: Mouser; Supplier Part Number 2: 863-MM5Z6V2T1G; Packing: Tape and Reel; RoHS: Pb-Free; Mounting Technology: Surface Mount; ComponentLink1Description: Manufacturer URL; ComponentLink1URL: http://www.onsemi.com/; ComponentLink2Description: Datasheet; ComponentLink2URL: http://www.onsemi.cn/pub_link/Collateral/MM5Z2V4T1-D.PDF; ComponentLink3Description: Package Specification; ComponentLink3URL: http://www.onsemi.com/pub_link/Collateral/502-01.PDF
footprint ONSC-SOD-523-2-502-01_V (SOD, 2-Leads, Body 1.2x0.8mm)
pins: 1 K, 2 A

## MM5Z6V8ST1G
designator D?
Zener Voltage Regulator, 500 mW, 2-Pin SOD-523, Pb-Free, Tape and Reel; Manufacturer: On Semiconductor; PartNumber: MM5Z6V8ST1G; P Max (W): 0.5; DatasheetVersion: Rev. 9; PackageVersion: Rev. E, 09/2010; PackageReference: SOD-523-2-502-01; PackageDescription: 2-Pin SOD, Body 1.2 x 0.8 mm; Supplier 1: Digi-Key; Supplier Part Number 1: MM5Z6V8ST1GOSTR-ND; Supplier 2: Digi-Key; Supplier Part Number 2: MM5Z6V8ST1GOSCT-ND; Supplier 3: Digi-Key; Supplier Part Number 3: MM5Z6V8ST1GOSDKR-ND; Supplier 4: Mouser; Supplier Part Number 4: 863-MM5Z6V8ST1G; Packing: Tape and Reel; RoHS: Pb-Free; Mounting Technology: Surface Mount; ComponentLink1Description: Manufacturer URL; ComponentLink1URL: http://www.onsemi.com/; ComponentLink2Description: Datasheet; ComponentLink2URL: http://www.onsemi.cn/pub_link/Collateral/MM5Z2V4ST1-D.PDF; ComponentLink3Description: Package Specification; ComponentLink3URL: http://www.onsemi.com/pub_link/Collateral/502-01.PDF
footprint ONSC-SOD-523-2-502-01_V (SOD, 2-Leads, Body 1.2x0.8mm)
pins: 1 K, 2 A

## MM5Z6V8T1G
designator D?
Zener Voltage Regulator, 500 mW, 2-Pin SOD-523, Pb-Free, Tape and Reel; Manufacturer: On Semiconductor; PartNumber: MM5Z6V8T1G; P Max (W): 0.5; VZ Typ (V): 6.8; DatasheetVersion: Rev. 10; PackageVersion: Rev. E, 09/2010; PackageReference: SOD-523-2-502-01; PackageDescription: 2-Pin SOD, Body 1.2 x 0.8 mm; Supplier 1: Digi-Key; Supplier Part Number 1: MM5Z6V8T1GOSTR-ND; Supplier 2: Digi-Key; Supplier Part Number 2: MM5Z6V8T1GOSCT-ND; Supplier 3: Digi-Key; Supplier Part Number 3: MM5Z6V8T1GOSDKR-ND; Supplier 4: Mouser; Supplier Part Number 4: 863-MM5Z6V8T1G; Packing: Tape and Reel; RoHS: Pb-Free; Mounting Technology: Surface Mount; ComponentLink1Description: Manufacturer URL; ComponentLink1URL: http://www.onsemi.com/; ComponentLink2Description: Datasheet; ComponentLink2URL: http://www.onsemi.cn/pub_link/Collateral/MM5Z2V4T1-D.PDF; ComponentLink3Description: Package Specification; ComponentLink3URL: http://www.onsemi.com/pub_link/Collateral/502-01.PDF
footprint ONSC-SOD-523-2-502-01_V (SOD, 2-Leads, Body 1.2x0.8mm)
pins: 1 K, 2 A

## MM5Z7V5T1G
designator D?
Zener Voltage Regulator, 500 mW, 2-Pin SOD-523, Pb-Free, Tape and Reel; Manufacturer: On Semiconductor; PartNumber: MM5Z7V5T1G; P Max (W): 0.5; VZ Typ (V): 7.5; DatasheetVersion: Rev. 10; PackageVersion: Rev. E, 09/2010; PackageReference: SOD-523-2-502-01; PackageDescription: 2-Pin SOD, Body 1.2 x 0.8 mm; Supplier 1: Digi-Key; Supplier Part Number 1: MM5Z7V5T1GOSTR-ND; Supplier 2: Digi-Key; Supplier Part Number 2: MM5Z7V5T1GOSCT-ND; Supplier 3: Digi-Key; Supplier Part Number 3: MM5Z7V5T1GOSDKR-ND; Supplier 4: Farnell; Supplier Part Number 4: 1431223RL; Supplier 5: Farnell; Supplier Part Number 5: 2322379; Supplier 6: Newark; Supplier Part Number 6: 42K1433; Supplier 7: Newark; Supplier Part Number 7: 85W2833; Supplier 8: Mouser; Supplier Part Number 8: 863-MM5Z7V5T1G; Packing: Tape and Reel; RoHS: Pb-Free; Mounting Technology: Surface Mount; ComponentLink1Description: Manufacturer URL; ComponentLink1URL: http://www.onsemi.com/; ComponentLink2Description: Datasheet; ComponentLink2URL: http://www.onsemi.cn/pub_link/Collateral/MM5Z2V4T1-D.PDF; ComponentLink3Description: Package Specification; ComponentLink3URL: http://www.onsemi.com/pub_link/Collateral/502-01.PDF
footprint ONSC-SOD-523-2-502-01_V (SOD, 2-Leads, Body 1.2x0.8mm)
pins: 1 K, 2 A

## MM5Z8V2ST1G
designator D?
Zener Voltage Regulator, 500 mW, 2-Pin SOD-523, Pb-Free, Tape and Reel; Manufacturer: On Semiconductor; PartNumber: MM5Z8V2ST1G; P Max (W): 0.5; DatasheetVersion: Rev. 9; PackageVersion: Rev. E, 09/2010; PackageReference: SOD-523-2-502-01; PackageDescription: 2-Pin SOD, Body 1.2 x 0.8 mm; Supplier 1: Digi-Key; Supplier Part Number 1: MM5Z8V2ST1GOSTR-ND; Supplier 2: Digi-Key; Supplier Part Number 2: MM5Z8V2ST1GOSCT-ND; Supplier 3: Mouser; Supplier Part Number 3: 863-MM5Z8V2ST1G; Packing: Tape and Reel; RoHS: Pb-Free; Mounting Technology: Surface Mount; ComponentLink1Description: Manufacturer URL; ComponentLink1URL: http://www.onsemi.com/; ComponentLink2Description: Datasheet; ComponentLink2URL: http://www.onsemi.cn/pub_link/Collateral/MM5Z2V4ST1-D.PDF; ComponentLink3Description: Package Specification; ComponentLink3URL: http://www.onsemi.com/pub_link/Collateral/502-01.PDF
footprint ONSC-SOD-523-2-502-01_V (SOD, 2-Leads, Body 1.2x0.8mm)
pins: 1 K, 2 A

## MM5Z8V2T1G
designator D?
Zener Voltage Regulator, 500 mW, 2-Pin SOD-523, Pb-Free, Tape and Reel; Manufacturer: On Semiconductor; PartNumber: MM5Z8V2T1G; P Max (W): 0.5; VZ Typ (V): 8.2; DatasheetVersion: Rev. 10; PackageVersion: Rev. E, 09/2010; PackageReference: SOD-523-2-502-01; PackageDescription: 2-Pin SOD, Body 1.2 x 0.8 mm; Supplier 1: Digi-Key; Supplier Part Number 1: MM5Z8V2T1GOSTR-ND; Supplier 2: Digi-Key; Supplier Part Number 2: MM5Z8V2T1GOSCT-ND; Supplier 3: Digi-Key; Supplier Part Number 3: MM5Z8V2T1GOSDKR-ND; Supplier 4: Farnell; Supplier Part Number 4: 1431224RL; Supplier 5: Newark; Supplier Part Number 5: 85W2834; Supplier 6: Mouser; Supplier Part Number 6: 863-MM5Z8V2T1G; Packing: Tape and Reel; RoHS: Pb-Free; Mounting Technology: Surface Mount; ComponentLink1Description: Manufacturer URL; ComponentLink1URL: http://www.onsemi.com/; ComponentLink2Description: Datasheet; ComponentLink2URL: http://www.onsemi.cn/pub_link/Collateral/MM5Z2V4T1-D.PDF; ComponentLink3Description: Package Specification; ComponentLink3URL: http://www.onsemi.com/pub_link/Collateral/502-01.PDF
footprint ONSC-SOD-523-2-502-01_V (SOD, 2-Leads, Body 1.2x0.8mm)
pins: 1 K, 2 A

## MM5Z9V1ST1G
designator D?
Zener Voltage Regulator, 500 mW, 2-Pin SOD-523, Pb-Free, Tape and Reel; Manufacturer: On Semiconductor; PartNumber: MM5Z9V1ST1G; P Max (W): 0.5; DatasheetVersion: Rev. 9; PackageVersion: Rev. E, 09/2010; PackageReference: SOD-523-2-502-01; PackageDescription: 2-Pin SOD, Body 1.2 x 0.8 mm; Supplier 1: Digi-Key; Supplier Part Number 1: MM5Z9V1ST1GOSTR-ND; Supplier 2: Digi-Key; Supplier Part Number 2: MM5Z9V1ST1GOSCT-ND; Supplier 3: Mouser; Supplier Part Number 3: 863-MM5Z9V1ST1G; Packing: Tape and Reel; RoHS: Pb-Free; Mounting Technology: Surface Mount; ComponentLink1Description: Manufacturer URL; ComponentLink1URL: http://www.onsemi.com/; ComponentLink2Description: Datasheet; ComponentLink2URL: http://www.onsemi.cn/pub_link/Collateral/MM5Z2V4ST1-D.PDF; ComponentLink3Description: Package Specification; ComponentLink3URL: http://www.onsemi.com/pub_link/Collateral/502-01.PDF
footprint ONSC-SOD-523-2-502-01_V (SOD, 2-Leads, Body 1.2x0.8mm)
pins: 1 K, 2 A

## MM5Z9V1T1G
designator D?
Zener Voltage Regulator, 500 mW, 2-Pin SOD-523, Pb-Free, Tape and Reel; Manufacturer: On Semiconductor; PartNumber: MM5Z9V1T1G; P Max (W): 0.5; VZ Typ (V): 9.1; DatasheetVersion: Rev. 10; PackageVersion: Rev. E, 09/2010; PackageReference: SOD-523-2-502-01; PackageDescription: 2-Pin SOD, Body 1.2 x 0.8 mm; Supplier 1: Digi-Key; Supplier Part Number 1: MM5Z9V1T1GOSTR-ND; Supplier 2: Digi-Key; Supplier Part Number 2: MM5Z9V1T1GOSCT-ND; Supplier 3: Digi-Key; Supplier Part Number 3: MM5Z9V1T1GOSDKR-ND; Supplier 4: Mouser; Supplier Part Number 4: 863-MM5Z9V1T1G; Packing: Tape and Reel; RoHS: Pb-Free; Mounting Technology: Surface Mount; ComponentLink1Description: Manufacturer URL; ComponentLink1URL: http://www.onsemi.com/; ComponentLink2Description: Datasheet; ComponentLink2URL: http://www.onsemi.cn/pub_link/Collateral/MM5Z2V4T1-D.PDF; ComponentLink3Description: Package Specification; ComponentLink3URL: http://www.onsemi.com/pub_link/Collateral/502-01.PDF
footprint ONSC-SOD-523-2-502-01_V (SOD, 2-Leads, Body 1.2x0.8mm)
pins: 1 K, 2 A

## MM5Z10VT1G
designator D?
Zener Voltage Regulator, 500 mW, 2-Pin SOD-523, Pb-Free, Tape and Reel; Manufacturer: On Semiconductor; PartNumber: MM5Z10VT1G; P Max (W): 0.5; VZ Typ (V): 10; DatasheetVersion: Rev. 10; PackageVersion: Rev. E, 09/2010; PackageReference: SOD-523-2-502-01; PackageDescription: 2-Pin SOD, Body 1.2 x 0.8 mm; Supplier 1: Digi-Key; Supplier Part Number 1: MM5Z10VT1GOSTR-ND; Supplier 2: Digi-Key; Supplier Part Number 2: MM5Z10VT1GOSCT-ND; Supplier 3: Digi-Key; Supplier Part Number 3: MM5Z10VT1GOSDKR-ND; Supplier 4: Farnell; Supplier Part Number 4: 1431209RL; Supplier 5: Farnell; Supplier Part Number 5: 1431209; Supplier 6: Newark; Supplier Part Number 6: 10N9527; Supplier 7: Newark; Supplier Part Number 7: 42K1402; Supplier 8: Mouser; Supplier Part Number 8: 863-MM5Z10VT1G; Packing: Tape and Reel; RoHS: Pb-Free; Mounting Technology: Surface Mount; ComponentLink1Description: Manufacturer URL; ComponentLink1URL: http://www.onsemi.com/; ComponentLink2Description: Datasheet; ComponentLink2URL: http://www.onsemi.cn/pub_link/Collateral/MM5Z2V4T1-D.PDF; ComponentLink3Description: Package Specification; ComponentLink3URL: http://www.onsemi.com/pub_link/Collateral/502-01.PDF
footprint ONSC-SOD-523-2-502-01_V (SOD, 2-Leads, Body 1.2x0.8mm)
pins: 1 K, 2 A

## MM5Z12VT1G
designator D?
Zener Voltage Regulator, 500 mW, 2-Pin SOD-523, Pb-Free, Tape and Reel; Manufacturer: On Semiconductor; PartNumber: MM5Z12VT1G; P Max (W): 0.5; VZ Typ (V): 12; DatasheetVersion: Rev. 10; PackageVersion: Rev. E, 09/2010; PackageReference: SOD-523-2-502-01; PackageDescription: 2-Pin SOD, Body 1.2 x 0.8 mm; Supplier 1: Digi-Key; Supplier Part Number 1: MM5Z12VT1GOSTR-ND; Supplier 2: Digi-Key; Supplier Part Number 2: MM5Z12VT1GOSCT-ND; Supplier 3: Digi-Key; Supplier Part Number 3: MM5Z12VT1GOSDKR-ND; Supplier 4: Farnell; Supplier Part Number 4: 1431210RL; Supplier 5: Farnell; Supplier Part Number 5: 2138021; Supplier 6: Newark; Supplier Part Number 6: 09R9512; Supplier 7: Mouser; Supplier Part Number 7: 863-MM5Z12VT1G; Packing: Tape and Reel; RoHS: Pb-Free; Mounting Technology: Surface Mount; ComponentLink1Description: Manufacturer URL; ComponentLink1URL: http://www.onsemi.com/; ComponentLink2Description: Datasheet; ComponentLink2URL: http://www.onsemi.cn/pub_link/Collateral/MM5Z2V4T1-D.PDF; ComponentLink3Description: Package Specification; ComponentLink3URL: http://www.onsemi.com/pub_link/Collateral/502-01.PDF
footprint ONSC-SOD-523-2-502-01_V (SOD, 2-Leads, Body 1.2x0.8mm)
pins: 1 K, 2 A

## MM5Z15VT1G
designator D?
Zener Voltage Regulator, 500 mW, 2-Pin SOD-523, Pb-Free, Tape and Reel; Manufacturer: On Semiconductor; PartNumber: MM5Z15VT1G; P Max (W): 0.5; VZ Typ (V): 15; DatasheetVersion: Rev. 10; PackageVersion: Rev. E, 09/2010; PackageReference: SOD-523-2-502-01; PackageDescription: 2-Pin SOD, Body 1.2 x 0.8 mm; Supplier 1: Digi-Key; Supplier Part Number 1: MM5Z15VT1GOSTR-ND; Supplier 2: Digi-Key; Supplier Part Number 2: MM5Z15VT1GOSCT-ND; Supplier 3: Digi-Key; Supplier Part Number 3: MM5Z15VT1GOSDKR-ND; Supplier 4: Farnell; Supplier Part Number 4: 1431211; Supplier 5: Farnell; Supplier Part Number 5: 1431211RL; Supplier 6: Newark; Supplier Part Number 6: 09R9513; Supplier 7: Mouser; Supplier Part Number 7: 863-MM5Z15VT1G; Packing: Tape and Reel; RoHS: Pb-Free; Mounting Technology: Surface Mount; ComponentLink1Description: Manufacturer URL; ComponentLink1URL: http://www.onsemi.com/; ComponentLink2Description: Datasheet; ComponentLink2URL: http://www.onsemi.cn/pub_link/Collateral/MM5Z2V4T1-D.PDF; ComponentLink3Description: Package Specification; ComponentLink3URL: http://www.onsemi.com/pub_link/Collateral/502-01.PDF
footprint ONSC-SOD-523-2-502-01_V (SOD, 2-Leads, Body 1.2x0.8mm)
pins: 1 K, 2 A

## MM5Z16VMT1G
designator D?
Zener Voltage Regulator, 500 mW, 2-Pin SOD-523, Pb-Free, Tape and Reel; Manufacturer: On Semiconductor; PartNumber: MM5Z16VMT1G; P Max (W): 0.5; VZ Typ (V): 16.2; DatasheetVersion: Rev. 10; PackageVersion: Rev. E, 09/2010; PackageReference: SOD-523-2-502-01; PackageDescription: 2-Pin SOD, Body 1.2 x 0.8 mm; Supplier 1: Digi-Key; Supplier Part Number 1: MM5Z16VMT1G-ND; Supplier 2: Mouser; Supplier Part Number 2: 863-MM5Z16VMT1G; Packing: Tape and Reel; RoHS: Pb-Free; Mounting Technology: Surface Mount; ComponentLink1Description: Manufacturer URL; ComponentLink1URL: http://www.onsemi.com/; ComponentLink2Description: Datasheet; ComponentLink2URL: http://www.onsemi.cn/pub_link/Collateral/MM5Z2V4T1-D.PDF; ComponentLink3Description: Package Specification; ComponentLink3URL: http://www.onsemi.com/pub_link/Collateral/502-01.PDF
footprint ONSC-SOD-523-2-502-01_V (SOD, 2-Leads, Body 1.2x0.8mm)
pins: 1 K, 2 A

## MM5Z16VT1G
designator D?
Zener Voltage Regulator, 500 mW, 2-Pin SOD-523, Pb-Free, Tape and Reel; Manufacturer: On Semiconductor; PartNumber: MM5Z16VT1G; P Max (W): 0.5; VZ Typ (V): 16.2; DatasheetVersion: Rev. 10; PackageVersion: Rev. E, 09/2010; PackageReference: SOD-523-2-502-01; PackageDescription: 2-Pin SOD, Body 1.2 x 0.8 mm; Supplier 1: Digi-Key; Supplier Part Number 1: MM5Z16VT1GOSTR-ND; Supplier 2: Digi-Key; Supplier Part Number 2: MM5Z16VT1GOSCT-ND; Supplier 3: Digi-Key; Supplier Part Number 3: MM5Z16VT1GOSDKR-ND; Supplier 4: Farnell; Supplier Part Number 4: 1887098; Supplier 5: Newark; Supplier Part Number 5: 09R9514; Supplier 6: Mouser; Supplier Part Number 6: 863-MM5Z16VT1G; Packing: Tape and Reel; RoHS: Pb-Free; Mounting Technology: Surface Mount; ComponentLink1Description: Manufacturer URL; ComponentLink1URL: http://www.onsemi.com/; ComponentLink2Description: Datasheet; ComponentLink2URL: http://www.onsemi.cn/pub_link/Collateral/MM5Z2V4T1-D.PDF; ComponentLink3Description: Package Specification; ComponentLink3URL: http://www.onsemi.com/pub_link/Collateral/502-01.PDF
footprint ONSC-SOD-523-2-502-01_V (SOD, 2-Leads, Body 1.2x0.8mm)
pins: 1 K, 2 A

## MM5Z18VT1G
designator D?
Zener Voltage Regulator, 500 mW, 2-Pin SOD-523, Pb-Free, Tape and Reel; Manufacturer: On Semiconductor; PartNumber: MM5Z18VT1G; P Max (W): 0.5; VZ Typ (V): 18; DatasheetVersion: Rev. 10; PackageVersion: Rev. E, 09/2010; PackageReference: SOD-523-2-502-01; PackageDescription: 2-Pin SOD, Body 1.2 x 0.8 mm; Supplier 1: Digi-Key; Supplier Part Number 1: MM5Z18VT1GOS-ND; Supplier 2: Farnell; Supplier Part Number 2: 1431212; Supplier 3: Farnell; Supplier Part Number 3: 1431212RL; Supplier 4: Newark; Supplier Part Number 4: 58M9266; Supplier 5: Mouser; Supplier Part Number 5: 863-MM5Z18VT1G; Packing: Tape and Reel; RoHS: Pb-Free; Mounting Technology: Surface Mount; ComponentLink1Description: Manufacturer URL; ComponentLink1URL: http://www.onsemi.com/; ComponentLink2Description: Datasheet; ComponentLink2URL: http://www.onsemi.cn/pub_link/Collateral/MM5Z2V4T1-D.PDF; ComponentLink3Description: Package Specification; ComponentLink3URL: http://www.onsemi.com/pub_link/Collateral/502-01.PDF
footprint ONSC-SOD-523-2-502-01_V (SOD, 2-Leads, Body 1.2x0.8mm)
pins: 1 K, 2 A